# Altium footprint library axsem_rf_v1-3.PCBLIB: 11 footprints
Each footprint in its own frame and in the unit in brackets; x right, y up, seen from the top. Pads: shape width x height; smd on the part's side, far side on the other; paste and mask are expansions set on the pad; w line width, h text height; cw(c..) or ccw(c..) is an arc to the next point about the centre after c.
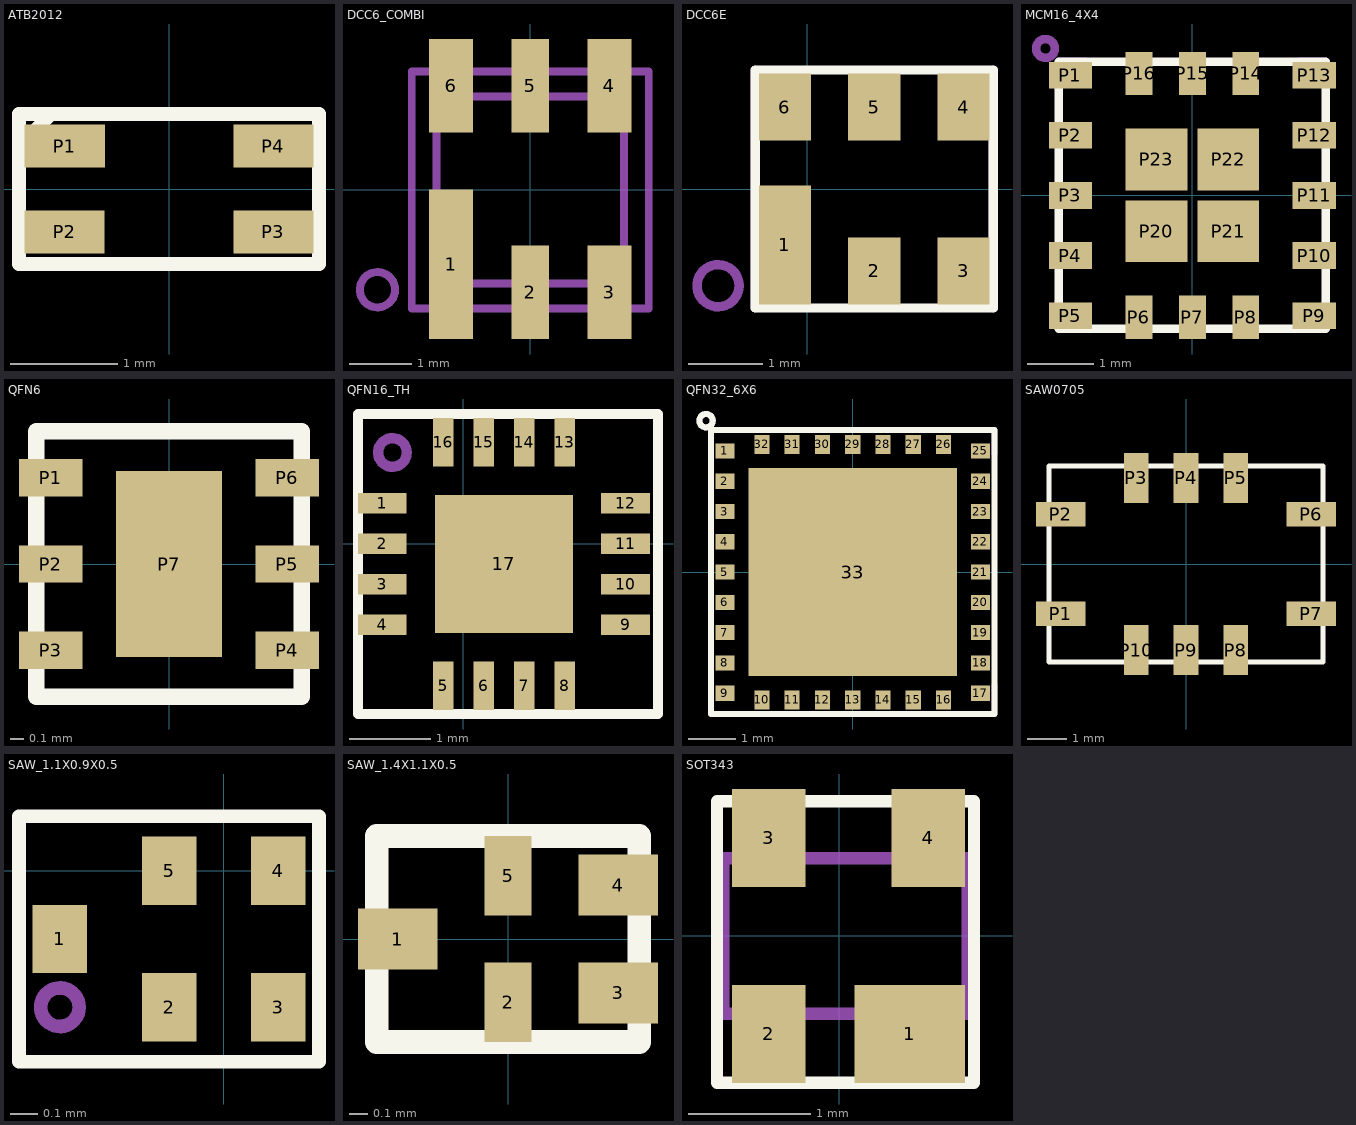
[diagram p0: the footprints below, top view; thin cyan lines are the x and y axes]

## ATB2012 [mm]
pads (4):
  rect 0.75x0.4 smd: P1(-0.974,0.4) P2(-0.975,-0.4) P3(0.975,-0.4) P4(0.975,0.4)
Top Overlay:
  lines w0.127: -1.4,0.4 -1.4,0.7 -1.1,0.7 ; -1.4,0.4 -1.4,-0.7 1.4,-0.7 1.4,0.7 -1.1,0.7 ; -1.4,0.4 -1.1,0.7

## DCC6_COMBI [mm]
pads (6):
  rect 0.7x2.4 smd: 1(-1.27,-1.19)
  rect 0.6x1.5 smd: 2(0,-1.64) 5(0,1.67)
  rect 0.7x1.5 smd: 3(1.27,-1.64) 4(1.27,1.67) 6(-1.27,1.67)
Mechanical 16:
  circle w0.127: c-2.45,-1.6 r0.283
  lines w0.127: -1.9,-1.9 1.9,-1.9 1.9,1.9 -1.9,1.9 -1.9,-1.9 ; -1.5,-1.5 1.5,-1.5 1.5,1.5 -1.5,1.5 -1.5,-1.5

## DCC6E [mm]
pads (6):
  rect 0.7x1.6 smd: 1(-0.3,-0.75)
  rect 0.7x0.9 smd: 2(0.9,-1.1) 3(2.1,-1.1) 4(2.1,1.1) 5(0.9,1.1) 6(-0.3,1.1)
Top Overlay:
  lines w0.127: -0.7,-1.6 -0.7,1.6 2.5,1.6 2.5,-1.6 -0.7,-1.6
Mechanical 16:
  circle w0.127: c-1.2,-1.3 r0.283
  lines w0.127: -0.7,-1.6 -0.7,1.6 ; 2.5,-1.6 2.5,1.6

## MCM16_4X4 [mm]
pads (20):
  rect 0.65x0.4 smd: P1(-1.825,1.8) P2(-1.825,0.9) P3(-1.825,0) P4(-1.825,-0.9) P5(-1.825,-1.8) P9(1.825,-1.8) P10(1.825,-0.9) P11(1.825,0) P12(1.825,0.9) P13(1.825,1.8)
  rect 0.4x0.65 smd: P6(-0.8,-1.825) P7(0,-1.825) P8(0.8,-1.825) P14(0.8,1.825) P15(0,1.825) P16(-0.8,1.825)
  rect 0.925x0.925 smd: P20(-0.537,-0.537) P21(0.537,-0.537) P22(0.537,0.537) P23(-0.537,0.537)
Top Overlay:
  lines w0.127: -2,-2 -2,2 2,2 2,-2 -2,-2
Mechanical 16:
  circle w0.127: c-2.2,2.2 r0.141
  lines w0.127: -2,-1.6 -2,-2 -1.6,-2 ; -2,1.6 -2,2 -1.6,2 ; 1.6,-2 2,-2 2,-1.6 ; 1.6,2 2,2 2,1.7

## QFN6 [mm]
pads (7):
  rect 0.48x0.28 smd: P1(-0.89,0.65) P2(-0.89,0) P3(-0.89,-0.65) P4(0.89,-0.65) P5(0.89,0) P6(0.89,0.65)
  rect 0.8x1.4 smd: P7(0,0)
Top Overlay:
  lines w0.127: -1,-1 -1,1 1,1 1,-1 -1,-1

## QFN16_TH [mm]
pads (17):
  rect 0.6x0.25 smd: 1(-1,0.5) 2(-1,0) 3(-1,-0.5) 4(-1,-1) 9(2,-1) 10(2,-0.5) 11(2,0) 12(2,0.5)
  rect 0.25x0.6 smd: 5(-0.25,-1.75) 6(0.25,-1.75) 7(0.75,-1.75) 8(1.25,-1.75) 13(1.25,1.25) 14(0.75,1.25) 15(0.25,1.25) 16(-0.25,1.25)
  rect 1.7x1.7 smd: 17(0.5,-0.25)
Top Overlay:
  lines w0.127: -1.3,-2.1 -1.3,1.6 2.4,1.6 2.4,-2.1 -1.3,-2.1
Mechanical 16:
  circle w0.127: c-0.875,1.125 r0.177

## QFN32_6X6 [mm]
pads (33):
  rect 0.4x0.32 smd: 1(-2.7,2.56) 2(-2.7,1.92) 3(-2.7,1.28) 4(-2.7,0.64) 5(-2.7,0) 6(-2.7,-0.64) 7(-2.7,-1.28) 8(-2.7,-1.92) 9(-2.7,-2.56) 17(2.7,-2.56) 18(2.7,-1.92) 19(2.7,-1.28) 20(2.7,-0.64) 21(2.7,0) 22(2.7,0.64) 23(2.7,1.28) 24(2.7,1.92) 25(2.7,2.56)
  rect 0.32x0.4 smd: 10(-1.92,-2.7) 11(-1.28,-2.7) 12(-0.64,-2.7) 13(0,-2.7) 14(0.64,-2.7) 15(1.28,-2.7) 16(1.92,-2.7) 26(1.92,2.7) 27(1.28,2.7) 28(0.64,2.7) 29(0,2.7) 30(-0.64,2.7) 31(-1.28,2.7) 32(-1.92,2.7)
  rect 4.4x4.4 smd: 33(0,0)
Top Overlay:
  circle w0.127: c-3.1,3.2 r0.141
  lines w0.127: -3,-3 -3,3 3,3 3,-3 -3,-3
Mechanical 16:
  circle w0.127: c-3.1,3.2 r0.141
  lines w0.127: -3,-2.4 -3,-3 -2.5,-3 ; -3,2.5 -3,3 -2.5,3 ; 2.5,-3 3,-3 3,-2.4 ; 2.5,3 3,3 3,2.5

## SAW0705 [mm]
pads (10):
  rect 1.27x0.635 smd: P1(-3.2,-1.27) P2(-3.2,1.27) P6(3.2,1.27) P7(3.2,-1.27)
  rect 0.635x1.27 smd: P3(-1.27,2.2) P4(0,2.2) P5(1.27,2.2) P8(1.27,-2.2) P9(0,-2.2) P10(-1.27,-2.2)
Top Overlay:
  lines w0.127: -3.5,-2.5 3.5,-2.5 3.5,2.5 -3.5,2.5 -3.5,-2.5

## SAW_1.1X0.9X0.5 [mm]
pads (5):
  rect 0.2x0.25 smd: 1(-0.6,-0.25) 2(-0.2,-0.5) 3(0.2,-0.5) 4(0.2,0) 5(-0.2,0)
Top Overlay:
  lines w0.05: -0.75,-0.7 0.35,-0.7 0.35,0.2 -0.75,0.2 -0.75,-0.7
Mechanical 30:
  circle w0.05: c-0.6,-0.5 r0.071

## SAW_1.4X1.1X0.5 [mm]
pads (5):
  rect 0.425x0.325 smd: 1(-0.588,0) 3(0.588,-0.288) 4(0.588,0.288)
  rect 0.25x0.425 smd: 2(0,-0.338) 5(0,0.338)
Top Overlay:
  lines w0.127: -0.7,-0.55 0.7,-0.55 0.7,0.55 -0.7,0.55 -0.7,-0.55

## SOT343 [mil]
pads (4):
  rect 35.43x31.5 smd: 1(22.64,-31.5)
  rect 23.62x31.5 smd: 2(-22.64,-31.5) 3(-22.64,31.5) 4(28.54,31.5)
Top Overlay:
  lines w3.94: -39.37,-47.24 -39.37,43.31 43.31,43.31 43.31,-47.24 -39.37,-47.24
Mechanical 16:
  lines w3.94: -37.32,-25 41.26,-25 41.26,25 -37.32,25 -37.32,-25